# EAGLE library part ATMEGA328P_AU (library Let'sMakeMyFabduino)
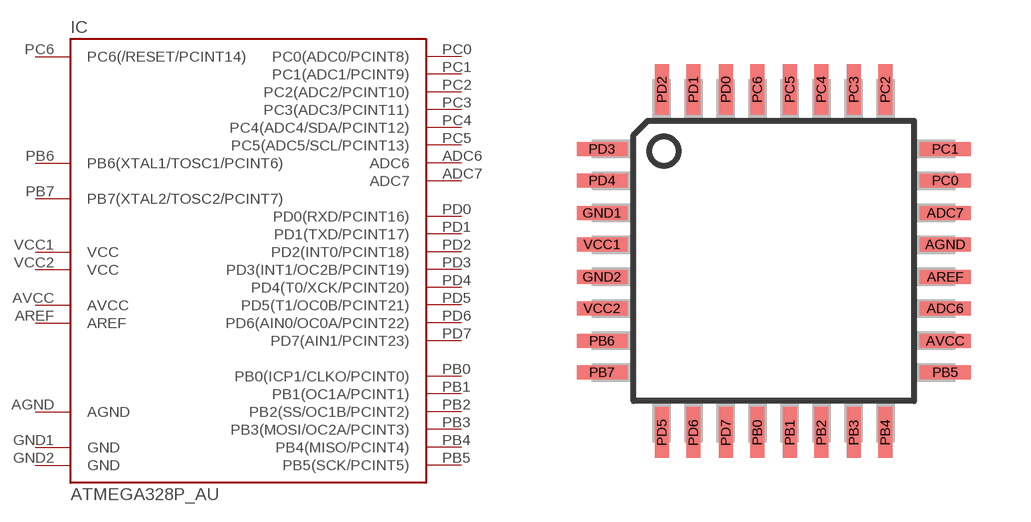
[diagram p0: symbol with the pads of ATMEGA328P_AU; footprint ATMEGA328P_AU]

Designator prefix IC

## ATMEGA328P_AU  [ATMEGA328P_AU]
ADC6  ADC6  pas
ADC7  ADC7  pas
AGND  AGND  pwr
AREF  AREF  pas
AVCC  AVCC  pas
GND1  GND  pwr
GND2  GND  pwr
PB0  PB0(ICP1/CLKO/PCINT0)
PB1  PB1(OC1A/PCINT1)
PB2  PB2(SS/OC1B/PCINT2)
PB3  PB3(MOSI/OC2A/PCINT3)
PB4  PB4(MISO/PCINT4)
PB5  PB5(SCK/PCINT5)
PB6  PB6(XTAL1/TOSC1/PCINT6)
PB7  PB7(XTAL2/TOSC2/PCINT7)
PC0  PC0(ADC0/PCINT8)
PC1  PC1(ADC1/PCINT9)
PC2  PC2(ADC2/PCINT10)
PC3  PC3(ADC3/PCINT11)
PC4  PC4(ADC4/SDA/PCINT12)
PC5  PC5(ADC5/SCL/PCINT13)
PC6  PC6(/RESET/PCINT14)
PD0  PD0(RXD/PCINT16)
PD1  PD1(TXD/PCINT17)
PD2  PD2(INT0/PCINT18)
PD3  PD3(INT1/OC2B/PCINT19)
PD4  PD4(T0/XCK/PCINT20)
PD5  PD5(T1/OC0B/PCINT21)
PD6  PD6(AIN0/OC0A/PCINT22)
PD7  PD7(AIN1/PCINT23)
VCC1  VCC  pwr
VCC2  VCC  pwr

## Footprint ATMEGA328P_AU (pad centres in mm)
smd 1.27 x 0.356: ADC6 4.293,-1.194; ADC7 4.293,1.194; AGND 4.293,0.406; AREF 4.293,-0.406; AVCC 4.293,-2.007; GND1 -4.293,1.194; GND2 -4.293,-0.406; PB5 4.293,-2.794; PB6 -4.293,-2.007; PB7 -4.293,-2.794; PC0 4.293,2.007; PC1 4.293,2.794; PD3 -4.293,2.794; PD4 -4.293,2.007; VCC1 -4.293,0.406; VCC2 -4.293,-1.194
smd 0.356 x 1.27: PB0 -0.406,-4.293; PB1 0.406,-4.293; PB2 1.194,-4.293; PB3 2.007,-4.293; PB4 2.794,-4.293; PC2 2.794,4.293; PC3 2.007,4.293; PC4 1.194,4.293; PC5 0.406,4.293; PC6 -0.406,4.293; PD0 -1.194,4.293; PD1 -2.007,4.293; PD2 -2.794,4.293; PD5 -2.794,-4.293; PD6 -2.007,-4.293; PD7 -1.194,-4.293